# EAGLE library part HI-6110 (library holt-integrated-circuits)
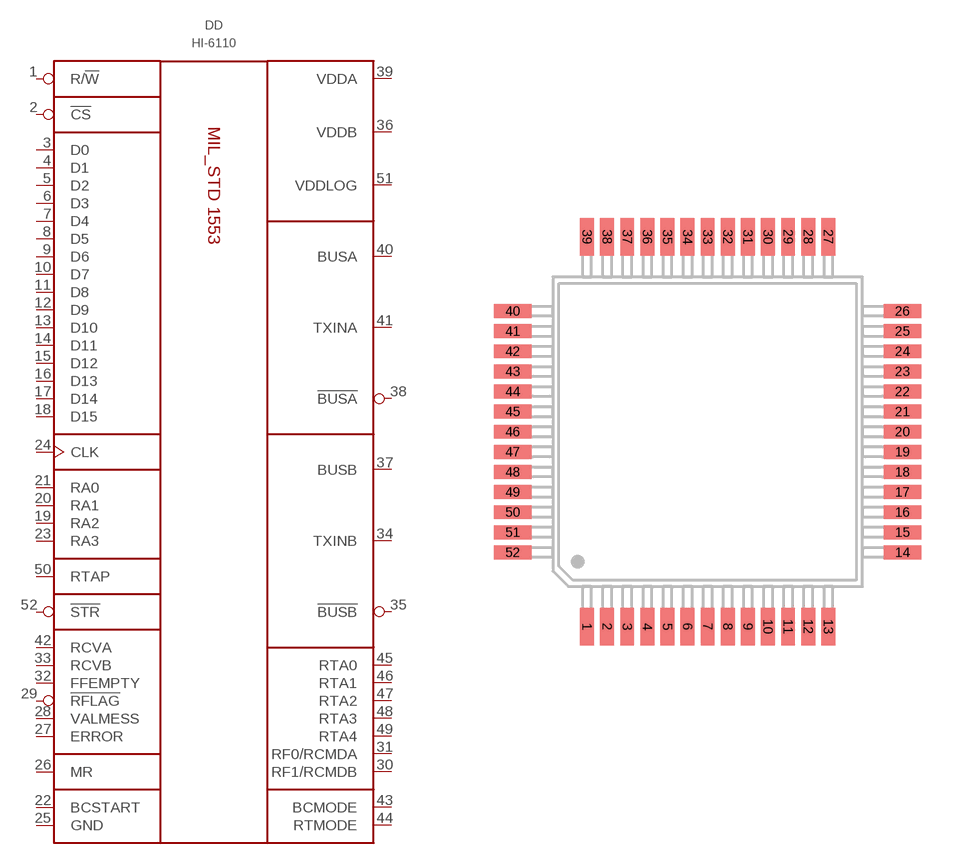
[diagram p1: symbol with the pads of PQFP52; footprint PQFP52]

Designator prefix DD

## HI-6110PQI  [PQFP52]
1  R/!W
2  !CS
3  D0
4  D1
5  D2
6  D3
7  D4
8  D5
9  D6
10  D7
11  D8
12  D9
13  D10
14  D11
15  D12
16  D13
17  D14
18  D15
19  RA2  in
20  RA1  in
21  RA0  in
22  BCSTART  in
23  RA3  in
24  CLK  in
25  GND  pwr
26  MR  in
27  ERROR  pwr
28  VALMESS  pwr
29  !RFLAG  pwr
30  RF1/RCMDB  pwr
31  RF0/RCMDA  pwr
32  FFEMPTY  pwr
33  RCVB  pwr
34  TXINB  pwr
35  !BUSB  pwr
36  VDDB  pwr
37  BUSB  pwr
38  !BUSA  pwr
39  VDDA  pwr
40  BUSA  pwr
41  TXINA  pwr
42  RCVA  pwr
43  BCMODE  pwr
44  RTMODE  pwr
45  RTA0  pwr
46  RTA1  pwr
47  RTA2  pwr
48  RTA3  pwr
49  RTA4  pwr
50  RTAP  pwr
51  VDDLOG  pwr
52  !STR

## Footprint PQFP52 (pad centres in mm)
smd 0.45 x 1.2: 1 -3.9,-6.3; 2 -3.25,-6.3; 3 -2.6,-6.3; 4 -1.95,-6.3; 5 -1.3,-6.3; 6 -0.65,-6.3; 7 0,-6.3; 8 0.65,-6.3; 9 1.3,-6.3; 10 1.95,-6.3; 11 2.6,-6.3; 12 3.25,-6.3; 13 3.9,-6.3; 27 3.9,6.3; 28 3.25,6.3; 29 2.6,6.3; 30 1.95,6.3; 31 1.3,6.3; 32 0.65,6.3; 33 0,6.3; 34 -0.65,6.3; 35 -1.3,6.3; 36 -1.95,6.3; 37 -2.6,6.3; 38 -3.25,6.3; 39 -3.9,6.3
smd 1.2 x 0.45: 14 6.3,-3.9; 15 6.3,-3.25; 16 6.3,-2.6; 17 6.3,-1.95; 18 6.3,-1.3; 19 6.3,-0.65; 20 6.3,0; 21 6.3,0.65; 22 6.3,1.3; 23 6.3,1.95; 24 6.3,2.6; 25 6.3,3.25; 26 6.3,3.9; 40 -6.3,3.9; 41 -6.3,3.25; 42 -6.3,2.6; 43 -6.3,1.95; 44 -6.3,1.3; 45 -6.3,0.65; 46 -6.3,0; 47 -6.3,-0.65; 48 -6.3,-1.3; 49 -6.3,-1.95; 50 -6.3,-2.6; 51 -6.3,-3.25; 52 -6.3,-3.9